# Altium footprint library CommonPackages.PcbLib: 31 footprints (part 1 of 2)
Each footprint in its own frame and in the unit in brackets; x right, y up, seen from the top. Pads: shape width x height; smd on the part's side, far side on the other; paste and mask are expansions set on the pad; w line width, h text height; cw(c..) or ccw(c..) is an arc to the next point about the centre after c.
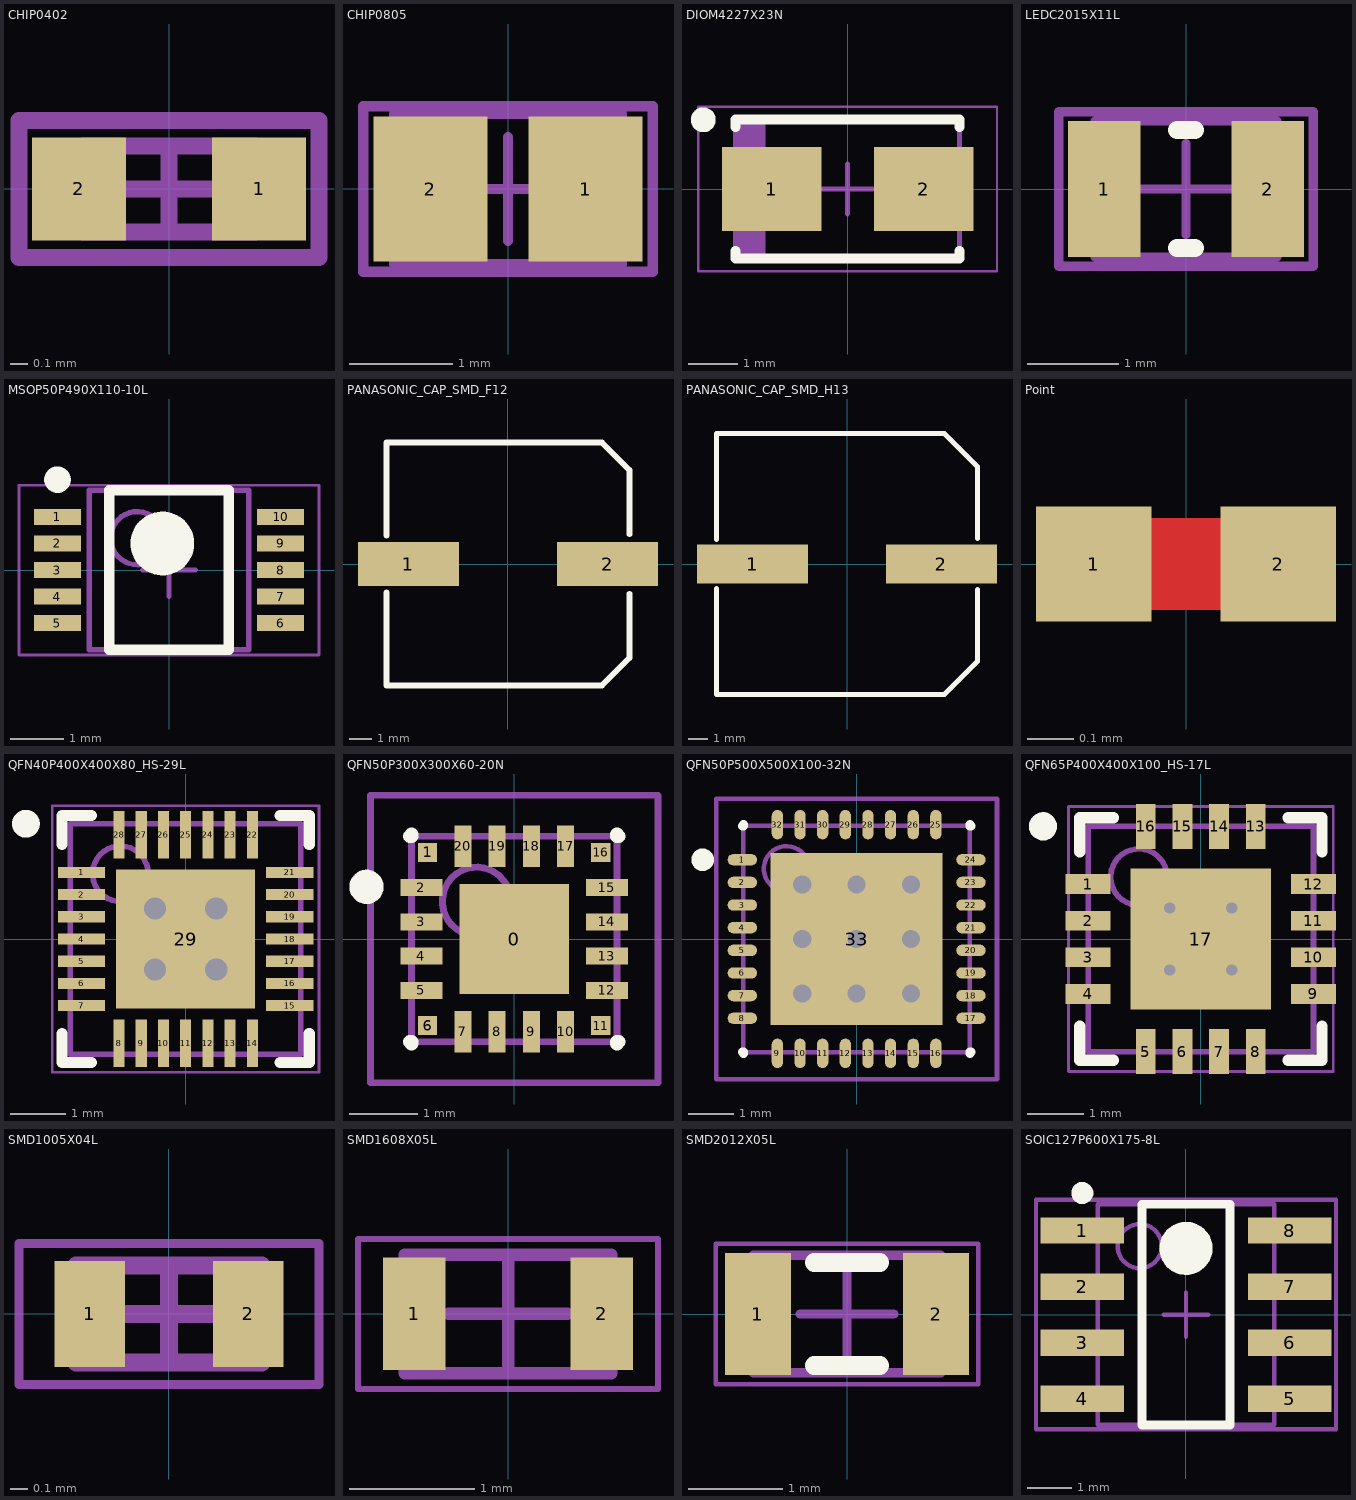
[diagram p0: the footprints below, top view; thin cyan lines are the x and y axes]

## CHIP0402 [mm] "Chip Resistor, 2-Leads, Body 1,0x0,5mm, IPC High Density"
height 0.35
pads (2):
  rect 0.55x0.6 smd: 1(0.525,0) 2(-0.525,0)
Mechanical 13:
  lines w0.1: -0.5,-0.25 -0.5,0.25 0.5,0.25 0.5,-0.25 -0.5,-0.25
Mechanical 15:
  lines w0.1: -0.25,0 0.25,0 ; 0,-0.25 0,0.25 ; -0.875,-0.4 -0.875,0.4 0.875,0.4 0.875,-0.4 -0.875,-0.4
3D body: height 0.35, standoff 0, extent -0.5,-0.25 0.5,0.25

## CHIP0805 [mm] "SMD Chip 0805 (2012)"
height 1
pads (2):
  rect 1.1x1.4 smd: 1(0.75,0) 2(-0.75,0)
Mechanical 13:
  lines w0.1: -1.1,-0.725 1.1,-0.725 1.1,0.725 -1.1,0.725 -1.1,-0.725
Mechanical 15:
  lines w0.1: -0.5,0 0.5,0 ; 0,-0.5 0,0.5 ; -1.4,-0.8 1.4,-0.8 1.4,0.8 -1.4,0.8 -1.4,-0.8
3D body: height 1.4, standoff 0, extent -1.1,-0.725 1.1,0.725

## DIOM4227X23N [mm] "Molded Diode, 2-Leads, Body 4.25x2.67mm, IPC Medium Density"
height 2.29
pads (2):
  rect 2x1.68 smd: 1(-1.525,0) 2(1.525,0)
Top Overlay:
  circle w0.25: c-2.9,1.39 r0.125
  lines w0.2: -2.25,-1.24 -2.25,-1.4 2.25,-1.4 2.25,-1.24 ; -2.25,1.24 -2.25,1.4 2.25,1.4 2.25,1.24
Mechanical 13:
  rectangle: -2.25,-1.395 -1.645,1.395
  lines w0.1: -2.25,-1.395 2.25,-1.395 2.25,1.395 -2.25,1.395 -2.25,-1.395
Mechanical 15:
  lines w0.05: -3,-1.65 3,-1.65 3,1.65 -3,1.65 -3,-1.65
  lines w0.1: -0.5,0 0.5,0 ; 0,-0.5 0,0.5
3D body: height 2.29, standoff 0, extent -2.25,-1.395 2.25,1.395

## LEDC2015X11L [mm] "Chip Led, 2-Leads, Body 2,0x1,5mm, IPC High Density"
height 1.1
pads (2):
  rect 0.8x1.5 smd: 1(-0.9,0) 2(0.9,0)
Top Overlay:
  lines w0.2: -0.1,-0.65 0.1,-0.65 ; -0.1,0.65 0.1,0.65
Mechanical 13:
  lines w0.1: -1,-0.75 1,-0.75 1,0.75 -1,0.75 -1,-0.75
Mechanical 15:
  lines w0.1: -0.5,0 0.5,0 ; 0,-0.5 0,0.5 ; -1.4,-0.85 1.4,-0.85 1.4,0.85 -1.4,0.85 -1.4,-0.85
3D body: height 1.1, standoff 0, extent -1,-0.75 1,0.75

## MSOP50P490X110-10L [mm] "MSOP, 10-Leads, Body 3,00x3,00mm, Pitch 0,50mm, IPC High Density"
height 1.1
pads (10):
  rect 0.889x0.305 smd: 1(-2.1,1) 2(-2.1,0.5) 3(-2.1,0) 4(-2.1,-0.5) 5(-2.1,-1) 6(2.1,-1) 7(2.1,-0.5) 8(2.1,0) 9(2.1,0.5) 10(2.1,1)
Top Overlay:
  circle w0.25: c-2.1,1.703 r0.125
  circle w0.6: c-0.125,0.5 r0.3
  lines w0.2: -1.125,-1.5 -1.125,1.5 1.125,1.5 1.125,-1.5 -1.125,-1.5
Mechanical 13:
  circle w0.1: c-0.6,0.6 r0.5
  lines w0.1: -1.5,-1.5 -1.5,1.5 1.5,1.5 1.5,-1.5 -1.5,-1.5
Mechanical 15:
  lines w0.05: -2.825,-1.6 -2.825,1.6 2.825,1.6 2.825,-1.6 -2.825,-1.6
  lines w0.1: -0.5,0 0.5,0 ; 0,-0.5 0,0.5
3D body: height 1.1, standoff 0.13, extent -1.5,-1.5 1.5,1.5

## PANASONIC_CAP_SMD_F12 [mm]
pads (2):
  rect 4.4x1.9 smd: 1(-4.35,0) 2(4.35,0)
Top Overlay:
  lines w0.254: -5.3,-1.25 -5.3,-5.3 4.1,-5.3 5.3,-4.1 5.3,-1.3 ; -5.3,1.25 -5.3,5.3 4.1,5.3 5.3,4.1 5.3,1.3
3D body: height 1, standoff 0.1, extent -5.1,-5.1 5.1,5.1
3D body: height 12.6, standoff 1, extent -4.96,-4.99 5,4.99

## PANASONIC_CAP_SMD_H13 [mm] "Panasonic H13 aluminium capacitor"
height 13.8
pads (2):
  rect 5.7x2 smd: 1(-4.85,0) 2(4.85,0)
Top Overlay:
  lines w0.254: -6.7,-1.25 -6.7,-6.7 5,-6.7 6.7,-5 6.7,-1.3 ; -6.7,1.25 -6.7,6.7 5,6.7 6.7,5 6.7,1.3
3D body: height 12.6, standoff 1, extent -6.201,-6.238 6.25,6.238
3D body: height 1, standoff 0.1, extent -6.5,-6.5 6.5,6.5

## Point [mm]
pads (2):
  rect 0.25x0.25 smd paste-910.217 mask-910.217: 1(-0.2,0)
  rect 0.25x0.25 smd: 2(0.2,0)
Top Layer:
  lines w0.2: -0.2,0 0.2,0

## QFN40P400X400X80_HS-29L [mm] "QFN, 28-Leads, Body 4,00x4,00mm, Pitch 0,40mm, Thermal Pad 2,50x2,50mm, IPC High Density"
height 0.8
pads (29):
  rect 0.85x0.2 smd: 1(-1.875,1.2) 2(-1.875,0.8) 3(-1.875,0.4) 4(-1.875,0) 5(-1.875,-0.4) 6(-1.875,-0.8) 7(-1.875,-1.2) 15(1.875,-1.2) 16(1.875,-0.8) 17(1.875,-0.4) 18(1.875,0) 19(1.875,0.4) 20(1.875,0.8) 21(1.875,1.2)
  rect 0.2x0.85 smd: 8(-1.2,-1.875) 9(-0.8,-1.875) 10(-0.4,-1.875) 11(0,-1.875) 12(0.4,-1.875) 13(0.8,-1.875) 14(1.2,-1.875) 22(1.2,1.875) 23(0.8,1.875) 24(0.4,1.875) 25(0,1.875) 26(-0.4,1.875) 27(-0.8,1.875) 28(-1.2,1.875)
  rect 2.5x2.5 smd: 29(0,0)
via -0.55,0.55 diameter 0.8 hole 0.4
via 0.55,0.55 diameter 0.8 hole 0.4
via -0.55,-0.55 diameter 0.8 hole 0.4
via 0.55,-0.55 diameter 0.8 hole 0.4
Top Overlay:
  circle w0.25: c-2.875,2.075 r0.125
  lines w0.2: -2.225,-1.7 -2.225,-2.225 -1.7,-2.225 ; -2.225,1.7 -2.225,2.225 -1.7,2.225 ; 1.7,-2.225 2.225,-2.225 2.225,-1.7 ; 1.7,2.225 2.225,2.225 2.225,1.7
Mechanical 13:
  circle w0.1: c-1.175,1.175 r0.5
  lines w0.1: -2.075,-2.075 -2.075,2.075 2.075,2.075 2.075,-2.075 -2.075,-2.075
Mechanical 15:
  lines w0.05: -2.4,-2.4 -2.4,2.4 2.4,2.4 2.4,-2.4 -2.4,-2.4
  lines w0.1: -0.5,0 0.5,0 ; 0,-0.5 0,0.5
3D body: height 0.8, standoff 0.05, extent -2.075,-2.075 2.075,2.075

## QFN50P300X300X60-20N [mm] "QFN, 20-Leads, Body 3,0x3,0mm (max), Pitch 0,50mm, IPC Medium Density"
height 0.6
pads (21):
  rect 1.6x1.6 smd: 0(0,0)
  rect 0.28x0.28 smd: 1(-1.265,1.265) 6(-1.265,-1.265) 11(1.265,-1.265) 16(1.265,1.265)
  rect 0.61x0.25 smd: 2(-1.355,0.75) 3(-1.355,0.25) 4(-1.355,-0.25) 5(-1.355,-0.75) 12(1.355,-0.75) 13(1.355,-0.25) 14(1.355,0.25) 15(1.355,0.75)
  rect 0.25x0.61 smd: 7(-0.75,-1.355) 8(-0.25,-1.355) 9(0.25,-1.355) 10(0.75,-1.355) 17(0.75,1.355) 18(0.25,1.355) 19(-0.25,1.355) 20(-0.75,1.355)
Top Overlay:
  circle w0.25: c-2.157,0.762 r0.125
  lines w0.2: -1.525,-1.5 -1.5,-1.5 -1.5,-1.525 ; -1.525,1.5 -1.5,1.5 -1.5,1.525 ; 1.5,-1.525 1.5,-1.5 1.525,-1.5 ; 1.5,1.525 1.5,1.5 1.525,1.5
Mechanical 13:
  circle w0.1: c-0.55,0.55 r0.5
  lines w0.1: -1.5,-1.5 1.5,-1.5 1.5,1.5 -1.5,1.5 -1.5,-1.5
Mechanical 15:
  lines w0.1: -0.5,0 0.5,0 ; 0,-0.5 0,0.5 ; -2.1,-2.1 2.1,-2.1 2.1,2.1 -2.1,2.1 -2.1,-2.1
3D body: height 0.6, standoff 0.05, extent -1.5,-1.5 1.5,1.5

## QFN50P500X500X100-32N [mm] "QFN, 32-Leads, Body 5,0x5,0mm (max), Pitch 0,50mm, IPC Medium Density"
height 1
pads (33):
  oval 0.65x0.25 smd: 1(-2.525,1.75) 2(-2.525,1.25) 3(-2.525,0.75) 4(-2.525,0.25) 5(-2.525,-0.25) 6(-2.525,-0.75) 7(-2.525,-1.25) 8(-2.525,-1.75) 17(2.525,-1.75) 18(2.525,-1.25) 19(2.525,-0.75) 20(2.525,-0.25) 21(2.525,0.25) 22(2.525,0.75) 23(2.525,1.25) 24(2.525,1.75)
  oval 0.25x0.65 smd: 9(-1.75,-2.525) 10(-1.25,-2.525) 11(-0.75,-2.525) 12(-0.25,-2.525) 13(0.25,-2.525) 14(0.75,-2.525) 15(1.25,-2.525) 16(1.75,-2.525) 25(1.75,2.525) 26(1.25,2.525) 27(0.75,2.525) 28(0.25,2.525) 29(-0.25,2.525) 30(-0.75,2.525) 31(-1.25,2.525) 32(-1.75,2.525)
  rect 3.8x3.8 smd: 33(0,0)
via 1.2,-1.2 diameter 0.8 hole 0.4
via 0,-1.2 diameter 0.8 hole 0.4
via -1.2,-1.2 diameter 0.8 hole 0.4
via 1.2,0 diameter 0.8 hole 0.4
via 0,0 diameter 0.8 hole 0.4
via -1.2,0 diameter 0.8 hole 0.4
via 1.2,1.2 diameter 0.8 hole 0.4
via 0,1.2 diameter 0.8 hole 0.4
via -1.2,1.2 diameter 0.8 hole 0.4
Top Overlay:
  circle w0.25: c-3.4,1.75 r0.125
  lines w0.2: -2.525,-2.5 -2.5,-2.5 -2.5,-2.525 ; -2.525,2.5 -2.5,2.5 -2.5,2.525 ; 2.5,-2.525 2.5,-2.5 2.525,-2.5 ; 2.5,2.525 2.5,2.5 2.525,2.5
Mechanical 13:
  circle w0.1: c-1.55,1.55 r0.5
  lines w0.1: -2.5,-2.5 2.5,-2.5 2.5,2.5 -2.5,2.5 -2.5,-2.5
Mechanical 15:
  lines w0.1: -0.5,0 0.5,0 ; 0,-0.5 0,0.5 ; -3.1,-3.1 3.1,-3.1 3.1,3.1 -3.1,3.1 -3.1,-3.1
3D body: height 1, standoff 0.05, extent -2.5,-2.5 2.5,2.5

## QFN65P400X400X100_HS-17L [mm] "QFN, 16-Leads, Body 4.00x4.00mm, Pitch 0.65mm, Thermal Pad 2.50x2.50mm, IPC High Density"
height 1
pads (17):
  rect 0.8x0.35 smd: 1(-2,0.975) 2(-2,0.325) 3(-2,-0.325) 4(-2,-0.975) 9(2,-0.975) 10(2,-0.325) 11(2,0.325) 12(2,0.975)
  rect 0.35x0.8 smd: 5(-0.975,-2) 6(-0.325,-2) 7(0.325,-2) 8(0.975,-2) 13(0.975,2) 14(0.325,2) 15(-0.325,2) 16(-0.975,2)
  rect 2.5x2.5 smd: 17(0,0)
via 0.55,-0.55 diameter 0.5 hole 0.2
via -0.55,-0.55 diameter 0.5 hole 0.2
via 0.55,0.55 diameter 0.5 hole 0.2
via -0.55,0.55 diameter 0.5 hole 0.2
Top Overlay:
  circle w0.25: c-2.8,2 r0.125
  lines w0.2: -2.15,-1.55 -2.15,-2.15 -1.55,-2.15 ; -2.15,1.55 -2.15,2.15 -1.55,2.15 ; 1.55,-2.15 2.15,-2.15 2.15,-1.55 ; 1.55,2.15 2.15,2.15 2.15,1.55
Mechanical 13:
  circle w0.1: c-1.1,1.1 r0.5
  lines w0.1: -2,-2 2,-2 2,2 -2,2 -2,-2
Mechanical 15:
  lines w0.05: -2.35,-2.35 2.35,-2.35 2.35,2.35 -2.35,2.35 -2.35,-2.35
  lines w0.1: -0.5,0 0.5,0 ; 0,-0.5 0,0.5
3D body: height 1, standoff 0, extent -2,-2 2,2

## SMD1005X04L [mm] "SMD 0402, 2-Leads, Body 1.00x0.50mm, IPC High Density"
height 0.4
pads (2):
  rect 0.4x0.6 smd: 1(-0.45,0) 2(0.45,0)
Mechanical 13:
  lines w0.1: -0.525,-0.275 -0.525,0.275 0.525,0.275 0.525,-0.275 -0.525,-0.275
Mechanical 15:
  lines w0.05: -0.85,-0.4 -0.85,0.4 0.85,0.4 0.85,-0.4 -0.85,-0.4
  lines w0.1: -0.275,0 0.275,0 ; 0,-0.275 0,0.275
3D body: height 0.4, standoff 0, extent -0.275,-0.275 0.275,0.275
3D body: height 0.4, standoff 0, extent -0.525,-0.275 -0.275,0.275
3D body: height 0.4, standoff 0, extent 0.275,-0.275 0.525,0.275

## SMD1608X05L [mm] "SMD 0603, 2-Leads, Body 1.57x0.85mm, IPC High Density"
height 0.5
pads (2):
  rect 0.5x0.9 smd: 1(-0.75,0) 2(0.75,0)
Mechanical 13:
  lines w0.1: -0.825,-0.475 -0.825,0.475 0.825,0.475 0.825,-0.475 -0.825,-0.475
Mechanical 15:
  lines w0.05: -1.2,-0.6 -1.2,0.6 1.2,0.6 1.2,-0.6 -1.2,-0.6
  lines w0.1: -0.475,0 0.475,0 ; 0,-0.475 0,0.475
3D body: height 0.5, standoff 0, extent -0.525,-0.475 0.525,0.475
3D body: height 0.5, standoff 0, extent -0.825,-0.475 -0.525,0.475
3D body: height 0.5, standoff 0, extent 0.525,-0.475 0.825,0.475

## SMD2012X05L [mm] "SMD 0805, 2-Leads, Body 2.00x1.25mm, IPC High Density"
height 0.5
pads (2):
  rect 0.7x1.3 smd: 1(-0.95,0) 2(0.95,0)
Top Overlay:
  lines w0.2: -0.35,-0.55 0.35,-0.55 ; -0.35,0.55 0.35,0.55
Mechanical 13:
  lines w0.1: -1,-0.625 1,-0.625 1,0.625 -1,0.625 -1,-0.625
Mechanical 15:
  lines w0.05: -1.4,-0.75 1.4,-0.75 1.4,0.75 -1.4,0.75 -1.4,-0.75
  lines w0.1: -0.5,0 0.5,0 ; 0,-0.5 0,0.5
3D body: height 0.5, standoff 0, extent 0.7,-0.625 1,0.625
3D body: height 0.5, standoff 0, extent -1,-0.625 -0.7,0.625
3D body: height 0.5, standoff 0, extent -0.7,-0.625 0.7,0.625

## SOIC127P600X175-8L [mm] "SOIC, 8-Leads, Body 5,0x4,0mm (max), Pitch 1,27mm, IPC High Density"
height 1.75
pads (8):
  rect 1.9x0.6 smd: 1(-2.35,1.905) 2(-2.35,0.635) 3(-2.35,-0.635) 4(-2.35,-1.905) 5(2.35,-1.905) 6(2.35,-0.635) 7(2.35,0.635) 8(2.35,1.905)
Top Overlay:
  circle w0.6: c0,1.5 r0.3
  circle w0.25: c-2.35,2.755 r0.125
  lines w0.2: -1,-2.5 1,-2.5 1,2.5 -1,2.5 -1,-2.5
Mechanical 13:
  circle w0.1: c-1.05,1.55 r0.5
  lines w0.1: -2,-2.5 2,-2.5 2,2.5 -2,2.5 -2,-2.5
Mechanical 15:
  lines w0.1: -0.5,0 0.5,0 ; 0,-0.5 0,0.5 ; -3.4,-2.6 3.4,-2.6 3.4,2.6 -3.4,2.6 -3.4,-2.6
3D body: height 1.75, standoff 0.1, extent -2,-2.5 2,2.5